# EAGLE library part 3405 (library 3405)
ESP32 802.11 Wireless LAN Development Board Check prices <https://pricing.snapeda.com/parts/3405/Adafruit/view-part?ref=eda>
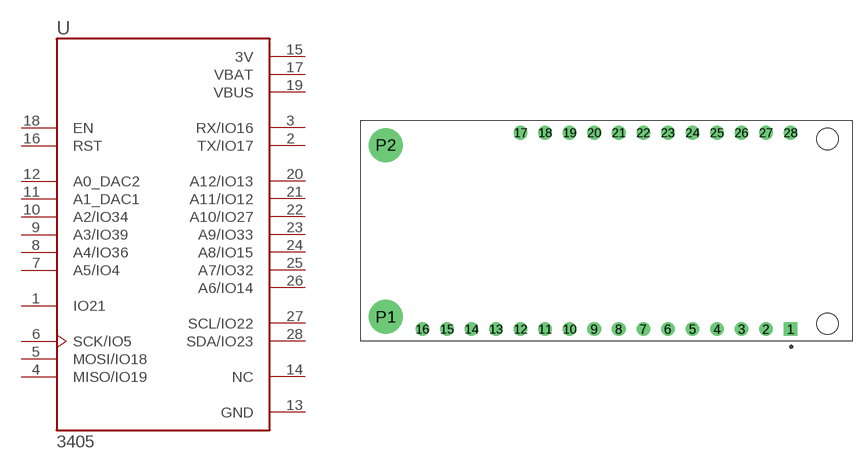
[diagram p0: symbol with the pads of MODULE_3405; footprint MODULE_3405]

Designator prefix U

## 3405 (Availability: In Stock; Description: ESP32 802.11 Wireless LAN Development Board; MF: Adafruit; MP: 3405; Package: None; Price: None; Purchase-URL: https://pricing.snapeda.com/search/part/3405/?ref=eda)  [MODULE_3405]
1  IO21
2  TX/IO17
3  RX/IO16
4  MISO/IO19
5  MOSI/IO18
6  SCK/IO5
7  A5/IO4
8  A4/IO36
9  A3/IO39
10  A2/IO34
11  A1_DAC1
12  A0_DAC2
13  GND  pwr
14  NC  nc
15  3V  pwr
16  RST  in
17  VBAT  pwr
18  EN  in
19  VBUS  pwr
20  A12/IO13
21  A11/IO12
22  A10/IO27
23  A9/IO33
24  A8/IO15
25  A7/IO32
26  A6/IO14
27  SCL/IO22
28  SDA/IO23

## Footprint MODULE_3405 (pad centres in mm)
drill 0.9 square: 1 19.05,-10.16
drill 0.9: 2 16.51,-10.16; 3 13.97,-10.16; 4 11.43,-10.16; 5 8.89,-10.16; 6 6.35,-10.16; 7 3.81,-10.16; 8 1.27,-10.16; 9 -1.27,-10.16; 10 -3.81,-10.16; 11 -6.35,-10.16; 12 -8.89,-10.16; 13 -11.43,-10.16; 14 -13.97,-10.16; 15 -16.51,-10.16; 16 -19.05,-10.16; 17 -8.89,10.16; 18 -6.35,10.16; 19 -3.81,10.16; 20 -1.27,10.16; 21 1.27,10.16; 22 3.81,10.16; 23 6.35,10.16; 24 8.89,10.16; 25 11.43,10.16; 26 13.97,10.16; 27 16.51,10.16; 28 19.05,10.16
drill 2.5: P1 -22.86,-8.89; P2 -22.86,8.89
hole 2.2 at 22.86,9.525
hole 2.2 at 22.86,-9.588